# Altium footprint library PCBFeatures.PcbLib: 17 footprints (part 2 of 2)
Each footprint in its own frame and in the unit in brackets; x right, y up, seen from the top. Pads: shape width x height; smd on the part's side, far side on the other; paste and mask are expansions set on the pad; w line width, h text height; cw(c..) or ccw(c..) is an arc to the next point about the centre after c.
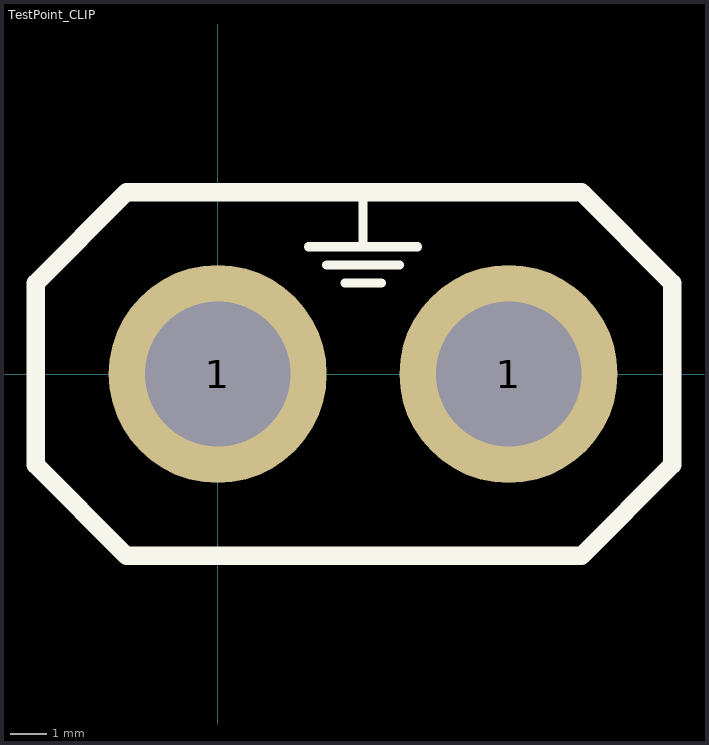
[diagram p1: the footprint, top view; thin cyan lines are the x and y axes]

## TestPoint_CLIP [mm]
pads (2):
  round 6 hole 4: 1(0,0) 1(8,0)
Top Overlay:
  lines w0.25: 2.5,3.5 5.5,3.5 ; 3,3 5,3 ; 3.5,2.5 4.5,2.5 ; 4,3.5 4,5
  lines w0.5: -5,-2.5 -2.5,-5 10,-5 12.5,-2.5 12.5,2.5 10,5 4,5 -2.5,5 -5,2.5 -5,-2.5